# EAGLE library part SWITCH_CON (library button_lib)
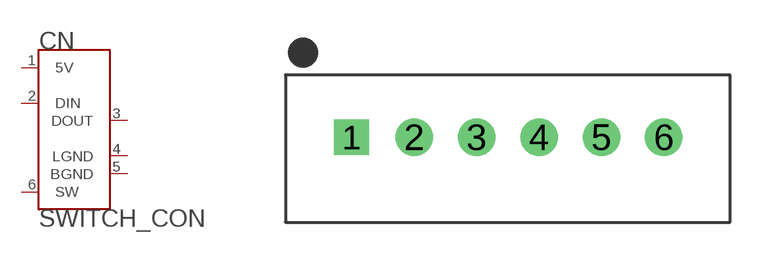
[diagram p1: symbol with the pads of JST_XH6; footprint JST_XH6]

Designator prefix CN

## SWITCH_CON  [JST_XH6]
1  5V
2  DIN
3  DOUT
4  LGND
5  BGND
6  SW

## Footprint JST_XH6 (pad centres in mm)
drill 0.9 square: 1 -6.25,0
drill 0.9 pad 1.5: 2 -3.75,0; 3 -1.25,0; 4 1.25,0; 5 3.75,0; 6 6.25,0